# Altium footprint library Blueberry_sound.PcbLib: 53 footprints (part 4 of 4)
Each footprint in its own frame and in the unit in brackets; x right, y up, seen from the top. Pads: shape width x height; smd on the part's side, far side on the other; paste and mask are expansions set on the pad; w line width, h text height; cw(c..) or ccw(c..) is an arc to the next point about the centre after c.
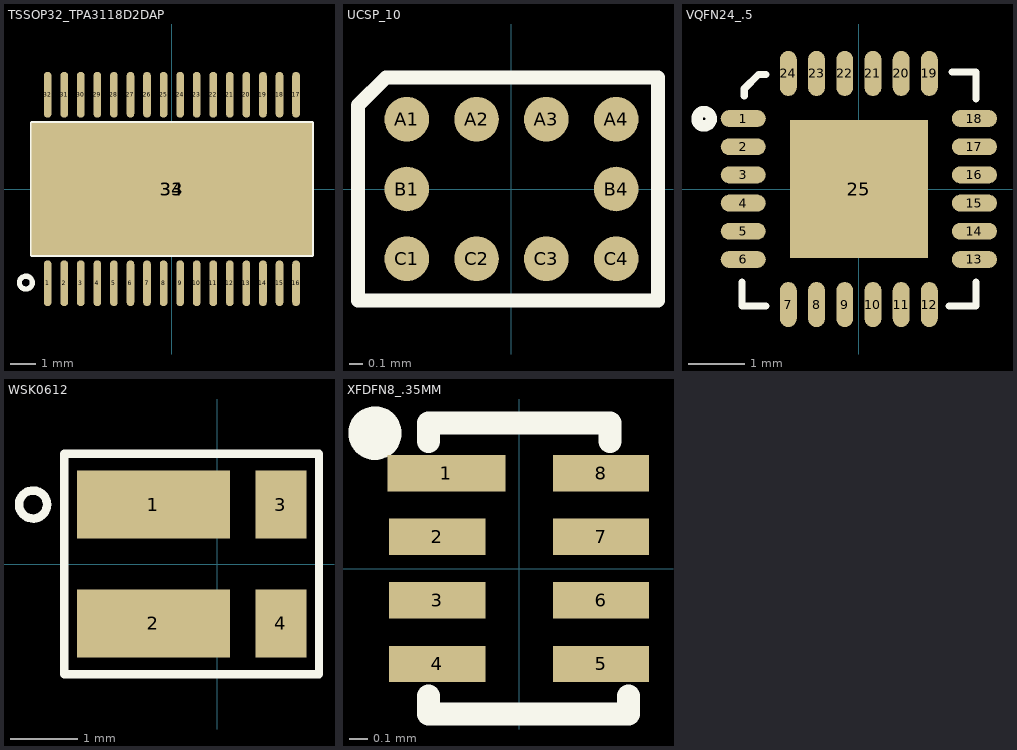
[diagram p3: the footprints below, top view; thin cyan lines are the x and y axes]

## TSSOP32_TPA3118D2DAP [mm]
pads (34):
  oval 0.3x1.8 smd: 1(-4.875,-3.7) 2(-4.225,-3.7) 3(-3.575,-3.7) 4(-2.925,-3.7) 5(-2.275,-3.7) 6(-1.625,-3.7) 7(-0.975,-3.7) 8(-0.325,-3.7) 9(0.325,-3.7) 10(0.975,-3.7) 11(1.625,-3.7) 12(2.275,-3.7) 13(2.925,-3.7) 14(3.575,-3.7) 15(4.225,-3.7) 16(4.875,-3.7) 17(4.875,3.7) 18(4.225,3.7) 19(3.575,3.7) 20(2.925,3.7) 21(2.275,3.7) 22(1.625,3.7) 23(0.975,3.7) 24(0.325,3.7) 25(-0.325,3.7) 26(-0.975,3.7) 27(-1.625,3.7) 28(-2.275,3.7) 29(-2.925,3.7) 30(-3.575,3.7) 31(-4.225,3.7) 32(-4.875,3.7)
  rect 11x5.2 smd paste-5.5: 33(0,0)
  rect 4.36x4.11 on Top Paste: 34(0,0)
Top Overlay:
  circle w0.203: c-5.73,-3.675 r0.254
  lines w0.152: -5.5,-0.5 ccw(c-5.5,0) -5.5,0.499 ; -5.5,-2.6 5.5,-2.6 5.5,2.6 -5.5,2.6 -5.5,-2.6

## UCSP_10 [mm]
pads (10):
  round 0.32 smd: A1(-0.75,0.5) A2(-0.25,0.5) A3(0.25,0.5) A4(0.75,0.5) B1(-0.75,0) B4(0.75,0) C1(-0.75,-0.5) C2(-0.25,-0.5) C3(0.25,-0.5) C4(0.75,-0.5)
Top Overlay:
  lines w0.102: -1.1,-0.8 -1.1,0.6 -0.9,0.8 1.05,0.8 1.05,-0.8 -1.1,-0.8

## VQFN24_.5 [mm]
pads (25):
  oval 0.8x0.3 smd: 1(-2.05,1.25) 2(-2.05,0.75) 3(-2.05,0.25) 4(-2.05,-0.25) 5(-2.05,-0.75) 6(-2.05,-1.25) 13(2.05,-1.25) 14(2.05,-0.75) 15(2.05,-0.25) 16(2.05,0.25) 17(2.05,0.75) 18(2.05,1.25)
  oval 0.3x0.8 smd: 7(-1.25,-2.05) 8(-0.75,-2.05) 9(-0.25,-2.05) 10(0.25,-2.05) 11(0.75,-2.05) 12(1.25,-2.05) 19(1.25,2.05) 20(0.75,2.05) 21(0.25,2.05) 22(-0.25,2.05) 23(-0.75,2.05) 24(-1.25,2.05)
  rect 2.45x2.45 smd: 25(0,0)
Top Overlay:
  circle w0.203: c-2.743,1.245 r0.127
  lines w0.127: -2.075,-1.651 -2.075,-2.075 -1.651,-2.075 ; -2.032,1.651 -2.032,1.778 -1.778,2.032 -1.651,2.032 ; 1.6,-2.075 2.075,-2.075 2.075,-1.651 ; 1.651,2.075 2.075,2.075 2.075,1.6

## WSK0612 [mil]
pads (4):
  rect 90x40 smd: 1(-37.5,35) 2(-37.5,-35)
  rect 30x40 smd: 3(37.5,35) 4(37.5,-35)
Top Overlay:
  circle w5: c-108.25,35 r8.25
  lines w5: -90,-65 -90,65 60,65 60,-65 -90,-65

## XFDFN8_.35MM [mm]
pads (8):
  rect 0.65x0.2 smd: 1(-0.4,0.525)
  rect 0.53x0.2 smd: 2(-0.45,0.175) 3(-0.45,-0.175) 4(-0.45,-0.525) 5(0.45,-0.525) 6(0.45,-0.175) 7(0.45,0.175) 8(0.45,0.525)
Top Overlay:
  circle w0.203: c-0.793,0.745 r0.045
  lines w0.127: -0.5,-0.7 -0.5,-0.8 0.6,-0.8 0.6,-0.7 ; -0.5,0.7 -0.5,0.8 0.5,0.8 0.5,0.7